# EAGLE library part DF12-TINYDUINO-RECEPTABLE (library ELL-i-Connectors)
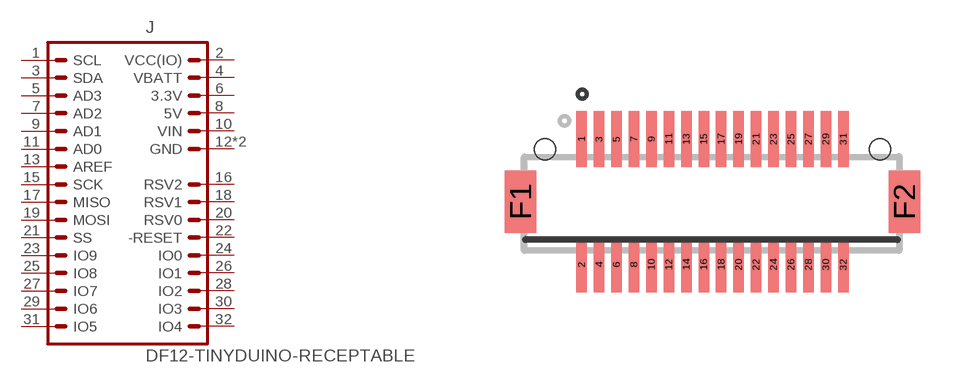
[diagram p10: symbol with the pads of DF12-32DS-0.5V; footprint DF12-32DS-0.5V]

Designator prefix J

## DF12-TINYDUINO-RECEPTABLE  [DF12-32DS-0.5V]
1  SCL
2  VCC(IO)  pwr
3  SDA
4  VBATT  pwr
5  AD3  pas
6  3.3V  pwr
7  AD2  pas
8  5V  pwr
9  AD1  pas
10  VIN  pwr
11  AD0  pas
12  GND  pwr
13  AREF  pas
14  GND  pwr
15  SCK
16  RSV2  pas
17  MISO
18  RSV1  pas
19  MOSI
20  RSV0  pas
21  SS
22  -RESET
23  IO9
24  IO0
25  IO8
26  IO1
27  IO7
28  IO2
29  IO6
30  IO3
31  IO5
32  IO4

## Footprint DF12-32DS-0.5V (pad centres in mm)
Hirose DF12 32-pin male (receptable) pattern with metal fitting and boss Datasheet <https://www.sparkfun.com/datasheets/Cellular%20Modules/ADH8066connector.pdf> (from SparkFun)
smd 0.3 x 1.6: 1 -3.75,1.8; 2 -3.75,-1.8; 3 -3.25,1.8; 4 -3.25,-1.8; 5 -2.75,1.8; 6 -2.75,-1.8; 7 -2.25,1.8; 8 -2.25,-1.8; 9 -1.75,1.8; 10 -1.75,-1.8; 11 -1.25,1.8; 12 -1.25,-1.8; 13 -0.75,1.8; 14 -0.75,-1.8; 15 -0.25,1.8; 16 -0.25,-1.8; 17 0.25,1.8; 18 0.25,-1.8; 19 0.75,1.8; 20 0.75,-1.8; 21 1.25,1.8; 22 1.25,-1.8; 23 1.75,1.8; 24 1.75,-1.8; 25 2.25,1.8; 26 2.25,-1.8; 27 2.75,1.8; 28 2.75,-1.8; 29 3.25,1.8; 30 3.25,-1.8; 31 3.75,1.8; 32 3.75,-1.8
smd 0.9 x 1.8: F1 -5.5,0; F2 5.5,0
hole 0.6 at -4.8,1.5
hole 0.6 at 4.8,1.5